# EAGLE library part LM95231 (library NewSDR)
Precision Dual Remote Diode Temperature Sensor with SMBus Interface
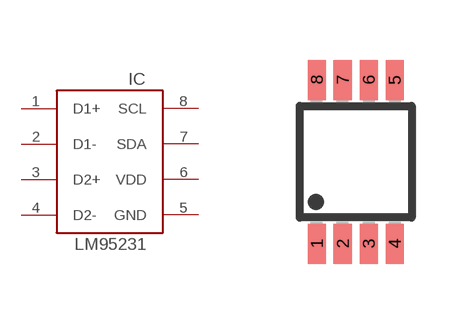
[diagram p69: symbol with the pads of MSOP8; footprint MSOP8]

Designator prefix IC

## LM95231  [MSOP8]
1  D1+  pas
2  D1-  pas
3  D2+  pas
4  D2-  pas
5  GND  pwr
6  VDD  pwr
7  SDA
8  SCL  in

## Footprint MSOP8 (pad centres in mm)
Micro Small Outline Package
smd 0.45 x 1: 1 -0.975,-2.05; 2 -0.325,-2.05; 3 0.325,-2.05; 4 0.975,-2.05; 5 0.975,2.05; 6 0.325,2.05; 7 -0.325,2.05; 8 -0.975,2.05